# Altium integrated library Resistor_GOST.IntLib: 1 symbol
Pins are listed as number, name and electrical type; pins without a type are passive.

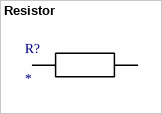
[diagram p0: symbol Resistor]

## Resistor
designator R?
Value: *; VCC: *; Power: *; Ta: *; Tolerance: *; Package: *; PartNumber: *; Manufacturer: *; ComponentLink1Description: Datasheet; ComponentLink1URL: *; ComponentLink2Description: Source; ComponentLink2URL: *
footprint 0402 (Chip Resistor, 2-Leads, Body 1.00x0.50mm, IPC Medium Density)
footprint 0603
footprint 0805
footprint 1206
footprint 1210
pins: 1, 2